# EAGLE library part BD7F100EFJ-LBE2 (library BD7F100EFJ-LBE2)
Isolated Flyback Converter,3-40V HTSOPJ8 ROHM BD7F100EFJ-LBE2, Flyback DC-DC Converter, Adjustable, Maximum of 50 V, 8-Pin HTSOP-J8 Source: Datasheet <http://docs-emea.rs-online.com/webdocs/1512/0900766b81512b4f.pdf>
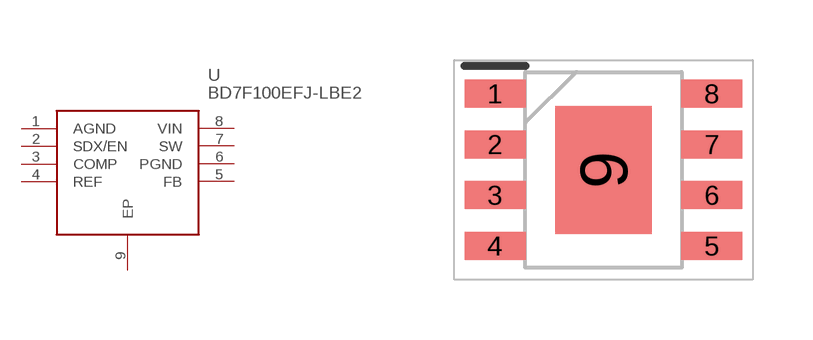
[diagram p0: symbol with the pads of SOIC127P600X100-9N; footprint SOIC127P600X100-9N]

Designator prefix U

## BD7F100EFJ-LBE2 (Description: Isolated Flyback Converter,3-40V HTSOPJ8 ROHM BD7F100EFJ-LBE2, Flyback DC-DC Converter, Adjustable, Maximum of 50 V, 8-Pin HTSOP-J8; Height: 1mm; Manufacturer_Name: ROHM Semiconductor; Manufacturer_Part_Number: BD7F100EFJ-LBE2; Mouser_Part_Number: 755-BD7F100EFJ-LBE2; Mouser_Price-Stock: https://www.mouser.co.uk/ProductDetail/ROHM-Semiconductor/BD7F100EFJ-LBE2?qs=5qbNLv0Tw5R6bjCk1UYqLw%3D%3D; RS_Part_Number: 1234291; RS_Price-Stock: https://uk.rs-online.com/web/p/products/1234291)  [SOIC127P600X100-9N]
1  AGND
2  SDX/EN
3  COMP
4  REF
5  FB
6  PGND
7  SW
8  VIN
9  EP

## Footprint SOIC127P600X100-9N (pad centres in mm)
HTSOP-J8
smd 1.525 x 0.7: 1 -2.712,1.905; 2 -2.712,0.635; 3 -2.712,-0.635; 4 -2.712,-1.905; 5 2.712,-1.905; 6 2.712,-0.635; 7 2.712,0.635; 8 2.712,1.905
smd 2.4 x 3.2: 9 0,0